# EAGLE library part MICROBUILDER_BNO055 (library main_library)
BNO055 - Motion Co-Processor
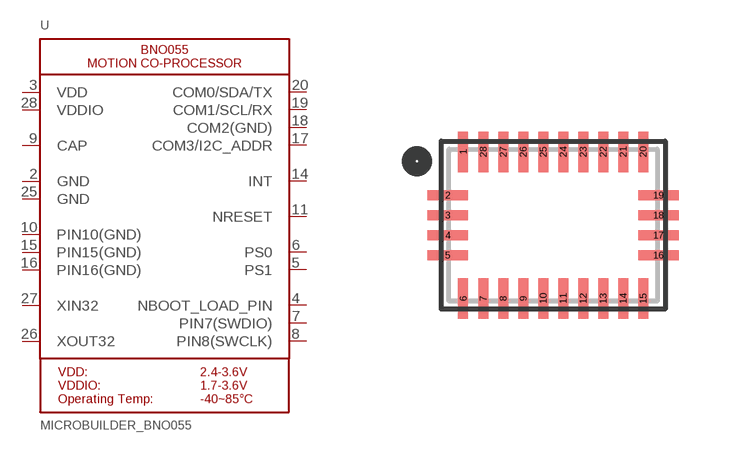
[diagram p1: symbol with the pads of MICROBUILDER_BNO055; footprint MICROBUILDER_BNO055]

Designator prefix -

## MICROBUILDER_BNO055  [MICROBUILDER_BNO055]
2  GND  pwr
3  VDD  pwr
4  NBOOT_LOAD_PIN
5  PS1  in
6  PS0  in
7  PIN7(SWDIO)
8  PIN8(SWCLK)
9  CAP  pas
10  PIN10(GND)
11  NRESET
14  INT  out
15  PIN15(GND)
16  PIN16(GND)
17  COM3/I2C_ADDR
18  COM2(GND)
19  COM1/SCL/RX
20  COM0/SDA/TX
25  GND  pwr
26  XOUT32  out
27  XIN32  in
28  VDDIO  pwr

## Footprint MICROBUILDER_BNO055 (pad centres in mm)
smd 0.25 x 1.016: 1 -2.25,1.833; 6 -2.25,-1.833; 7 -1.75,-1.833; 8 -1.25,-1.833; 9 -0.75,-1.833; 10 -0.25,-1.833; 11 0.25,-1.833; 12 0.75,-1.833; 13 1.25,-1.833; 14 1.75,-1.833; 15 2.25,-1.833; 20 2.25,1.833; 21 1.75,1.833; 22 1.25,1.833; 23 0.75,1.833; 24 0.25,1.833; 25 -0.25,1.833; 26 -0.75,1.833; 27 -1.25,1.833; 28 -1.75,1.833
smd 1.016 x 0.25: 2 -2.633,0.75; 3 -2.633,0.25; 4 -2.633,-0.25; 5 -2.633,-0.75; 16 2.633,-0.75; 17 2.633,-0.25; 18 2.633,0.25; 19 2.633,0.75